# Altium footprint library Silkscreen_Logo.PcbLib: 12 footprints
Each footprint in its own frame and in the unit in brackets; x right, y up, seen from the top. Pads: shape width x height; smd on the part's side, far side on the other; paste and mask are expansions set on the pad; w line width, h text height; cw(c..) or ccw(c..) is an arc to the next point about the centre after c.
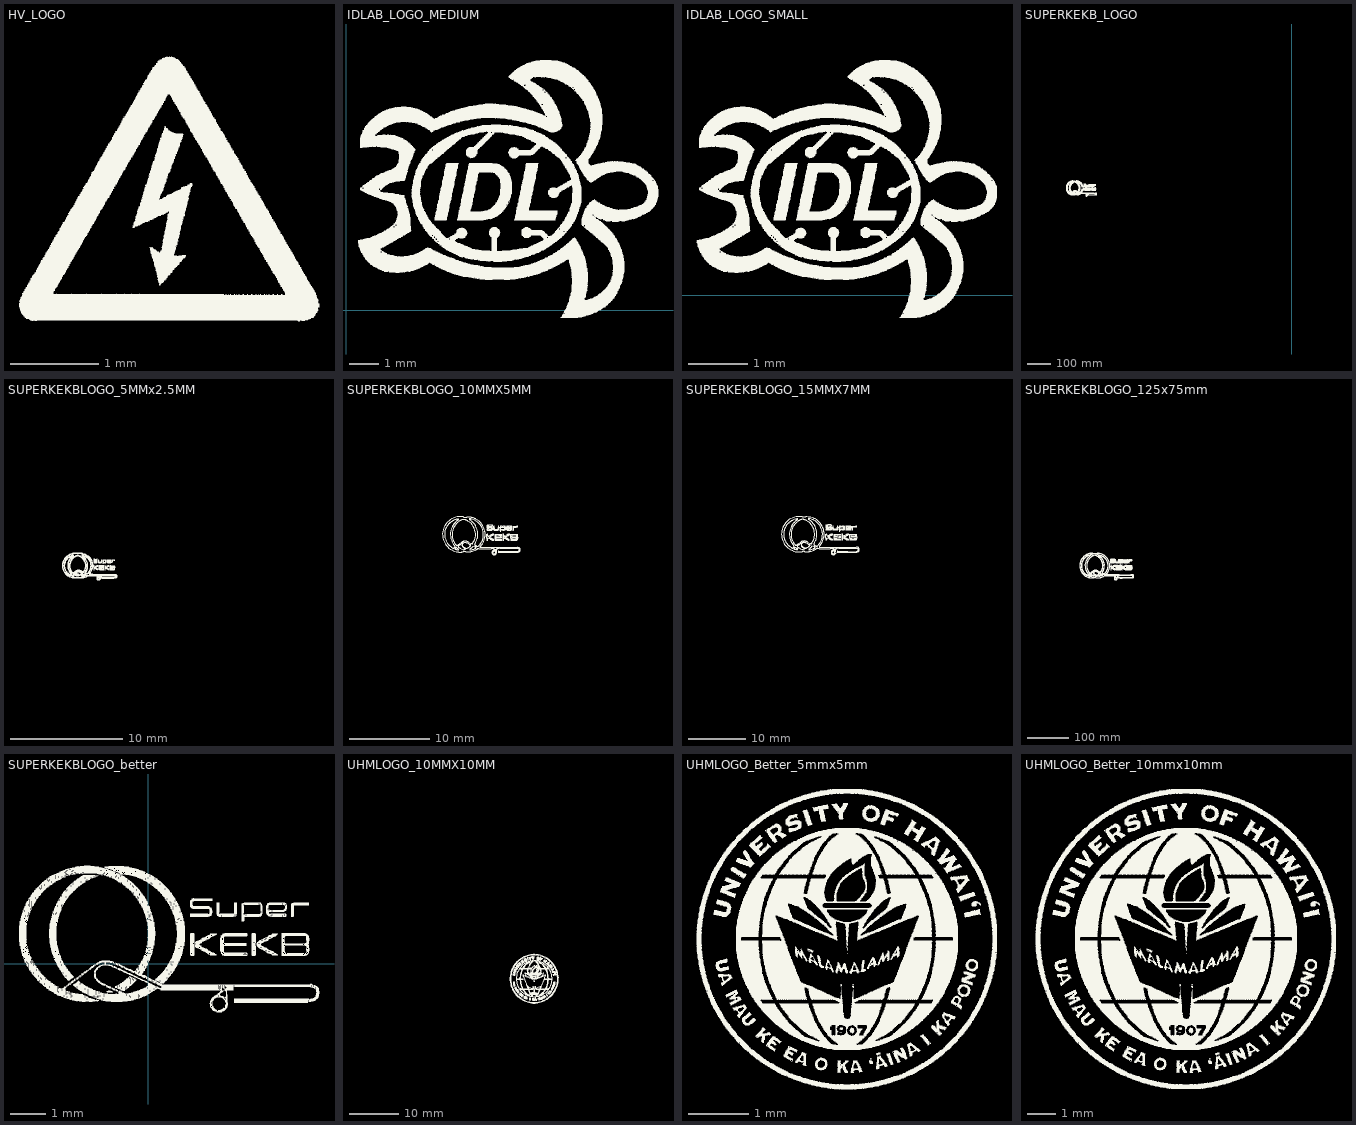
[diagram p0: the footprints below, top view; thin cyan lines are the x and y axes]

## HV_LOGO [mm]
Top Overlay:
  drawing of 2 lines, arcs and shapes, not listed

## IDLAB_LOGO_MEDIUM [mm]
Top Overlay:
  drawing of 5 lines, arcs and shapes, not listed

## IDLAB_LOGO_SMALL [mm]
Top Overlay:
  drawing of 5 lines, arcs and shapes, not listed

## SUPERKEKB_LOGO [mm]
Top Overlay:
  drawing of 3352 lines, arcs and shapes, not listed

## SUPERKEKBLOGO_5MMx2.5MM [mm]
Top Overlay:
  drawing of 1615 lines, arcs and shapes, not listed

## SUPERKEKBLOGO_10MMX5MM [mm]
Top Overlay:
  drawing of 1547 lines, arcs and shapes, not listed

## SUPERKEKBLOGO_15MMX7MM [mm]
Top Overlay:
  drawing of 1549 lines, arcs and shapes, not listed

## SUPERKEKBLOGO_125x75mm [mm]
Top Overlay:
  drawing of 3020 lines, arcs and shapes, not listed

## SUPERKEKBLOGO_better [mm]
Top Overlay:
  drawing of 13 lines, arcs and shapes, not listed

## UHMLOGO_10MMX10MM [mm]
Top Overlay:
  drawing of 3108 lines, arcs and shapes, not listed

## UHMLOGO_Better_5mmx5mm [mm]
Top Overlay:
  drawing of 71 lines, arcs and shapes, not listed

## UHMLOGO_Better_10mmx10mm [mm]
Top Overlay:
  drawing of 71 lines, arcs and shapes, not listed